# Altium footprint library SOT.PcbLib: 23 footprints (part 2 of 2)
Each footprint in its own frame and in the unit in brackets; x right, y up, seen from the top. Pads: shape width x height; smd on the part's side, far side on the other; paste and mask are expansions set on the pad; w line width, h text height; cw(c..) or ccw(c..) is an arc to the next point about the centre after c.
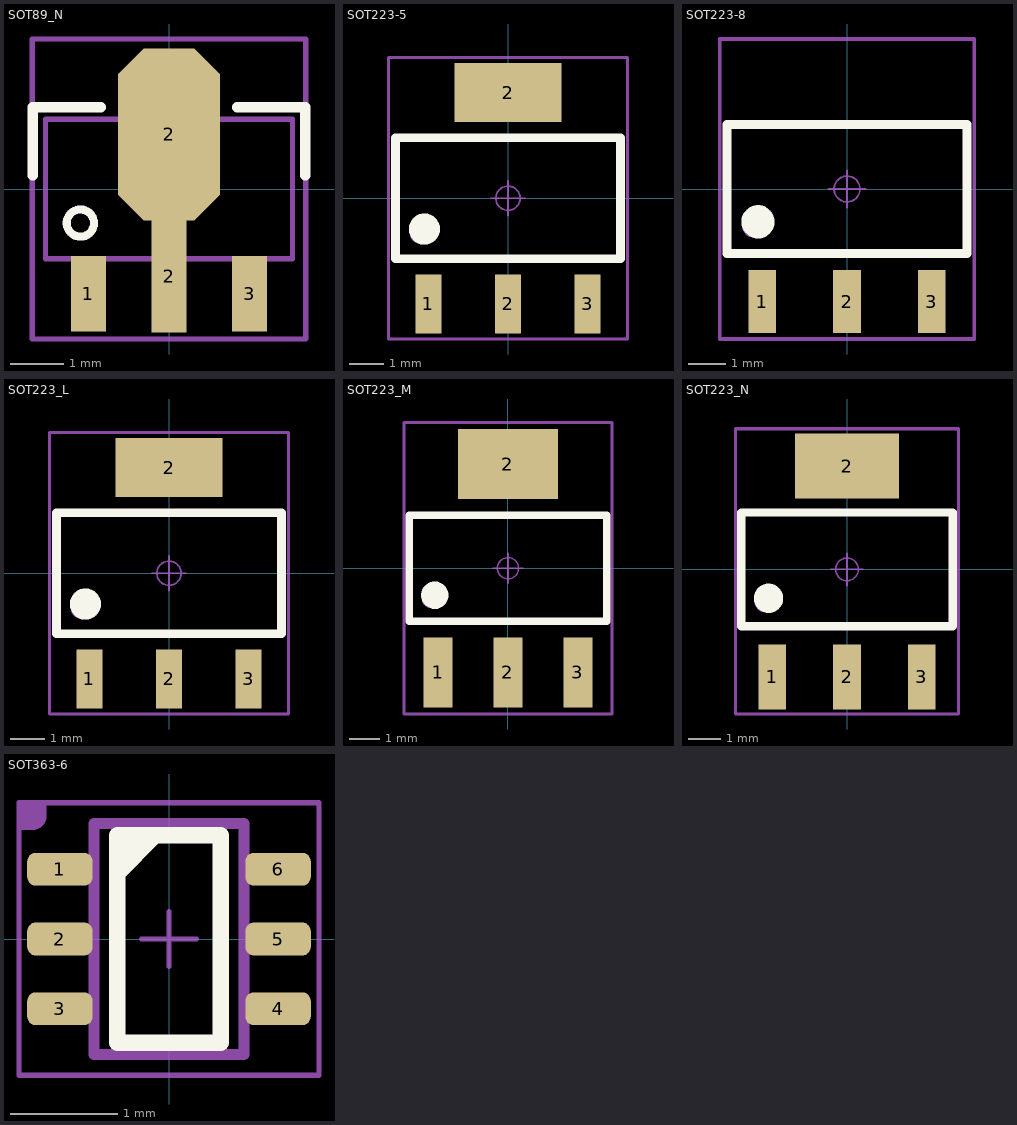
[diagram p1: the footprints below, top view; thin cyan lines are the x and y axes]

## SOT89_N [mm] "4.6x4.3x1.6mm(ï¿½ï¿½ï¿½ï¿½ï¿½)"
height 1.6
pads (4):
  rect 0.65x1.4 smd: 1(-1.5,-1.952) 3(1.5,-1.952)
  rect 0.65x2.1 smd: 2(0,-1.626)
  oct 1.9x3.2 smd: 2(0,1.016)
Top Overlay:
  circle w0.15: c-1.651,-0.635 r0.254
  lines w0.2: -2.54,0.254 -2.54,1.524 -1.27,1.524 ; 1.27,1.524 2.54,1.524 2.54,0.254
Mechanical 13:
  circle w0.1: c-1.651,-0.635 r0.25
  lines w0.1: -2.3,-1.3 2.3,-1.3 2.3,1.3 -2.3,1.3 -2.3,-1.3
Mechanical 15:
  circle w0.05: c0,0 r0.35
  lines w0.05: -0.5,0 0.5,0 ; 0,-0.5 0,0.5
  lines w0.1: -2.55,-2.794 -2.55,2.794 2.55,2.794 2.55,-2.794 -2.55,-2.794
3D body "SOT89.STEP": height 1.6, standoff 0.04, extent -2.3,-2.4 2.3,1.9

## SOT223-5 [mm]
height 1.8
pads (4):
  rect 0.75x1.7 smd: 1(-2.3,-3.048) 2(0,-3.048) 3(2.3,-3.048)
  rect 3.1x1.7 smd: 2(0,3.048)
Top Overlay:
  circle w0.5: c-2.413,-0.889 r0.2
  lines w0.25: -3.25,-1.75 3.25,-1.75 3.25,1.75 -3.25,1.75 -3.25,-1.75
Mechanical 13:
  circle w0.1: c-2.536,-1.016 r0.25
  lines w0.1: -3.25,-1.75 3.25,-1.75 3.25,1.75 -3.25,1.75 -3.25,-1.75
Mechanical 15:
  circle w0.05: c0,0 r0.35
  lines w0.05: -0.5,0 0.5,0 ; 0,-0.5 0,0.5
  lines w0.1: -3.45,-4.064 3.45,-4.064 3.45,4.064 -3.45,4.064 -3.45,-4.064
3D body "SOT223.STEP": height 1.65, standoff -0.02, extent -3.25,-3.508 3.25,3.508

## SOT223-8 [mm]
height 1.6
pads (3):
  rect 0.75x1.7 smd: 1(-2.3,-3.048) 2(0,-3.048) 3(2.3,-3.048)
Top Overlay:
  circle w0.5: c-2.413,-0.889 r0.2
  lines w0.25: -3.25,-1.75 -3.25,1.75 3.25,1.75 3.25,-1.75 -3.25,-1.75
Mechanical 13:
  circle w0.1: c-2.536,-1.016 r0.25
  lines w0.1: -3.25,-1.75 -3.25,1.75 3.25,1.75 3.25,-1.75 -3.25,-1.75
Mechanical 15:
  circle w0.05: c0,0 r0.35
  lines w0.05: -0.5,0 0.5,0 ; 0,-0.5 0,0.5
  lines w0.1: -3.45,-4.064 -3.45,4.064 3.45,4.064 3.45,-4.064 -3.45,-4.064
3D body "SOT223.STEP": height 1.65, standoff -0.02, extent -3.25,-3.508 3.25,3.508

## SOT223_L [mm] "6.4x7x1.6mm(ï¿½ï¿½ï¿½ï¿½ï¿½)"
height 1.7
pads (4):
  rect 0.75x1.7 smd: 1(-2.3,-3.048) 2(0,-3.048) 3(2.3,-3.048)
  rect 3.1x1.7 smd: 2(0,3.048)
Top Overlay:
  circle w0.5: c-2.413,-0.889 r0.2
  lines w0.25: -3.25,-1.75 3.25,-1.75 3.25,1.75 -3.25,1.75 -3.25,-1.75
Mechanical 13:
  circle w0.1: c-2.536,-1.016 r0.25
  lines w0.1: -3.25,-1.75 3.25,-1.75 3.25,1.75 -3.25,1.75 -3.25,-1.75
Mechanical 15:
  circle w0.05: c0,0 r0.35
  lines w0.05: -0.5,0 0.5,0 ; 0,-0.5 0,0.5
  lines w0.1: -3.45,-4.064 3.45,-4.064 3.45,4.064 -3.45,4.064 -3.45,-4.064
3D body "SOT223.STEP": height 1.65, standoff -0.02, extent -3.25,-3.508 3.25,3.508

## SOT223_M [mm] "6.4x7x1.6mm(ï¿½ï¿½ï¿½ï¿½ï¿½)"
height 1.7
pads (4):
  rect 0.95x2.3 smd: 1(-2.3,-3.429) 2(0,-3.429) 3(2.3,-3.429)
  rect 3.3x2.3 smd: 2(0,3.429)
Top Overlay:
  circle w0.5: c-2.413,-0.889 r0.2
  lines w0.25: -3.25,-1.75 3.25,-1.75 3.25,1.75 -3.25,1.75 -3.25,-1.75
Mechanical 13:
  circle w0.1: c-2.536,-1.016 r0.25
  lines w0.1: -3.25,-1.75 -3.25,1.75 3.25,1.75 3.25,-1.75 -3.25,-1.75
Mechanical 15:
  circle w0.05: c0,0 r0.35
  lines w0.05: -0.5,0 0.5,0 ; 0,-0.5 0,0.5
  lines w0.1: -3.429,-4.8 -3.429,4.8 3.429,4.8 3.429,-4.8 -3.429,-4.8
3D body "SOT223.STEP": height 1.65, standoff -0.02, extent -3.25,-3.508 3.25,3.508

## SOT223_N [mm] "6.4x7x1.6mm(ï¿½ï¿½ï¿½ï¿½ï¿½)"
height 1.7
pads (4):
  rect 0.85x2 smd: 1(-2.3,-3.302) 2(0,-3.302) 3(2.3,-3.302)
  rect 3.2x2 smd: 2(0,3.175)
Top Overlay:
  circle w0.5: c-2.413,-0.889 r0.2
  lines w0.25: -3.25,-1.75 -3.25,1.75 3.25,1.75 3.25,-1.75 -3.25,-1.75
Mechanical 13:
  circle w0.1: c-2.536,-1.016 r0.25
  lines w0.1: -3.25,-1.75 3.25,-1.75 3.25,1.75 -3.25,1.75 -3.25,-1.75
Mechanical 15:
  circle w0.05: c0,0 r0.35
  lines w0.05: -0.5,0 0.5,0 ; 0,-0.5 0,0.5
  lines w0.1: -3.429,-4.445 3.429,-4.445 3.429,4.318 -3.429,4.318 -3.429,-4.445
3D body "SOT223.STEP": height 1.65, standoff -0.02, extent -3.25,-3.508 3.25,3.508

## SOT363-6 [mil]
height 43.31
pads (6):
  rrect50% 24x12 smd: 1(-40,25.59) 2(-40,0) 3(-40,-25.59) 4(40,-25.59) 5(40,0) 6(40,25.59)
Top Overlay:
  region: -19,38 -5,38 -19,24
  lines w6: -19,24 -5,38 ; -19,-38 19,-38 19,38 -19,38 -19,-38
Mechanical 13:
  lines w2: -10,0 10,0 ; 0,-10 0,10
  lines w4: -27.56,-42.32 27.56,-42.32 27.56,42.32 -27.56,42.32 -27.56,-42.32
Mechanical 14:
  region: -55,50 -45,50 -45,45 -45,44.01 -45.76,42.17 -47.17,40.76 -49.01,40 -50,40 -55,40
  lines w2: -55,-50 55,-50 55,50 -55,50 -55,-50
3D body "SW3dPS-SC70-6.STEP": height 36.73, standoff -0.67, extent -41.33,-39.37 41.35,39.37